# EAGLE library part MPU6050_BREAKOUT (library untitled)
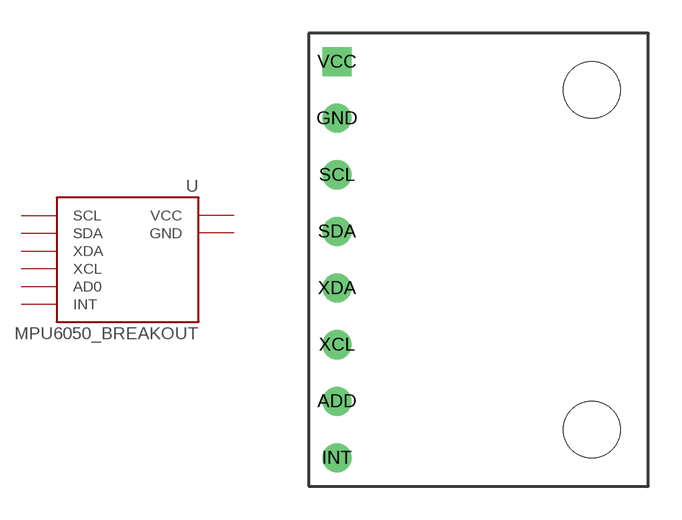
[diagram p0: symbol with the pads of MPU6050_BREAKOUT; footprint MPU6050_BREAKOUT]

Designator prefix U

## MPU6050_BREAKOUT  [MPU6050_BREAKOUT]
ADD  AD0  hiz
GND  GND  pwr
INT  INT
SCL  SCL
SDA  SDA
VCC  VCC  pwr
XCL  XDA
XDA  XCL

## Footprint MPU6050_BREAKOUT (pad centres in mm)
drill 0.8: ADD -6.35,-6.35; GND -6.35,6.35; INT -6.35,-8.89; SCL -6.35,3.81; SDA -6.35,1.27; XCL -6.35,-3.81; XDA -6.35,-1.27
drill 0.8 square: VCC -6.35,8.89
hole 2.54 at 5.08,7.62
hole 2.54 at 5.08,-7.62